# Altium schematic symbol library WR-UMRF.SchLib: 2 symbols
Pins are listed as number, name and electrical type; pins without a type are passive.

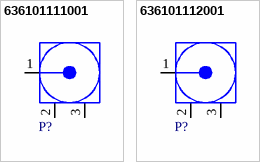
[diagram p0: symbols 636101111001 to 636101112001]

## 636101111001
designator P?  (value not drawn)
WR-UMRF PCB Receptacle SMT with 3 Pads, DC~6GHz, 50Ω; Manufacturer: Wurth Elektronik; ComponentLink1Description: Website Link; ComponentLink1URL: https://www.we-online.com/redexpert/article/636101111001?ad; ComponentLink2Description: Datasheet Link; ComponentLink2URL: https://www.we-online.com/redexpert/spec/636101111001?ad; Manufacturer Part Number: 636101111001; Category: Coaxial Connectors; Match Code: WR-UMRF; Mount: Surface Mount; Operating Temperature Max: 90°C; Operating Temperature Min: -40°C; Packaging: Tape and Reel; Frequency Range: DC~6GHz; Impedance: 50Ω
footprint 63610111x001
pins: 1 Signal "Signal Pin", 2 GND, 3 GND

## 636101112001
designator P?  (value not drawn)
WR-UMRF PCB Receptacle SMT with 3 Pads, DC~6GHz, 50Ω; Manufacturer: Wurth Elektronik; ComponentLink1Description: Website Link; ComponentLink1URL: https://www.we-online.com/redexpert/article/636101112001?ad; ComponentLink2Description: Datasheet Link; ComponentLink2URL: https://www.we-online.com/redexpert/spec/636101112001?ad; Manufacturer Part Number: 636101112001; Category: Coaxial Connectors; Match Code: WR-UMRF; Mount: Surface Mount; Operating Temperature Max: 90°C; Operating Temperature Min: -40°C; Packaging: Tape and Reel; Frequency Range: DC~6GHz; Impedance: 50Ω
footprint 63610111x001
pins: 1 Signal "Signal Pin", 2 GND, 3 GND